# EAGLE library part YX5200 (library Fuzzy)
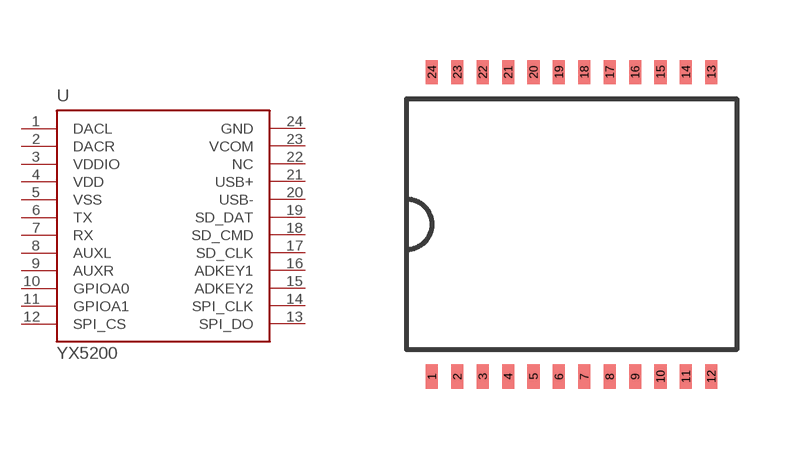
[diagram p6: symbol with the pads of SSOP-24; footprint SSOP-24]

Designator prefix -

## YX5200  [SSOP-24]
1  DACL
2  DACR
3  VDDIO
4  VDD
5  VSS
6  TX
7  RX
8  AUXL
9  AUXR
10  GPIOA0
11  GPIOA1
12  SPI_CS
13  SPI_DO
14  SPI_CLK
15  ADKEY2
16  ADKEY1
17  SD_CLK
18  SD_CMD
19  SD_DAT
20  USB-
21  USB+
22  NC
23  VCOM
24  GND

## Footprint SSOP-24 (pad centres in mm)
smd 0.305 x 0.61: 1 -3.493,-3.81; 2 -2.857,-3.81; 3 -2.223,-3.81; 4 -1.587,-3.81; 5 -0.953,-3.81; 6 -0.318,-3.81; 7 0.318,-3.81; 8 0.953,-3.81; 9 1.587,-3.81; 10 2.223,-3.81; 11 2.857,-3.81; 12 3.493,-3.81; 13 3.493,3.81; 14 2.857,3.81; 15 2.223,3.81; 16 1.587,3.81; 17 0.953,3.81; 18 0.318,3.81; 19 -0.318,3.81; 20 -0.953,3.81; 21 -1.587,3.81; 22 -2.223,3.81; 23 -2.857,3.81; 24 -3.493,3.81